# EAGLE library part SD-CARD (library e-Lib-Connectors)
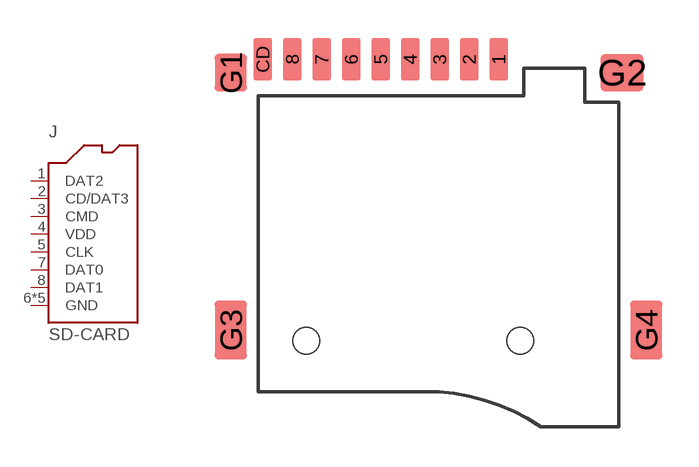
[diagram p1: symbol with the pads of SD-CARD-BIG; footprint SD-CARD-BIG]

Designator prefix J

## SD-CARD14X15MM  [SD-CARD-BIG]
1  DAT2
2  CD/DAT3
3  CMD
4  VDD
5  CLK
6  GND
7  DAT0
8  DAT1
G1  GND
G2  GND
G3  GND
G4  GND

## Footprint SD-CARD-BIG (pad centres in mm)
smd 0.7 x 1.6: 1 2.25,10.5; 2 1.15,10.5; 3 0.05,10.5; 4 -1.05,10.5; 5 -2.15,10.5; 6 -3.25,10.5; 7 -4.35,10.5; 8 -5.45,10.5; CD -6.55,10.5
smd 1.2 x 1.4: G1 -7.75,10
smd 1.6 x 1.4: G2 6.85,10
smd 1.2 x 2.2: G3 -7.75,0.4; G4 7.75,0.4
hole 1 at 3.05,0
hole 1 at -4.93,0